# EAGLE library part ICE40LP1K-CM36A (library ICE40LP1K-CM36A)
iCE40 LP/HX/LM - Low-power, high-performance FPGA Source: Datasheet <http://www.latticesemi.com/iCE40>
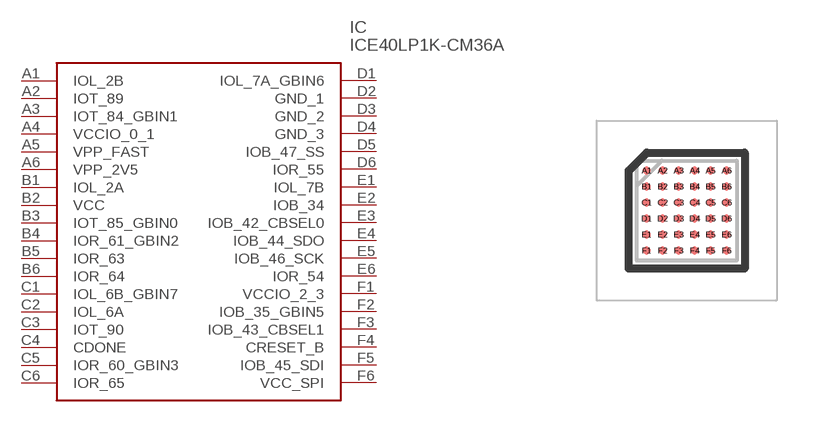
[diagram p0: symbol with the pads of BGA36C40P6X6_250X250X100; footprint BGA36C40P6X6_250X250X100]

Designator prefix IC

## ICE40LP1K-CM36A (Description: iCE40 LP/HX/LM - Low-power, high-performance FPGA; Height: 1mm; Manufacturer_Name: Lattice Semiconductor; Manufacturer_Part_Number: ICE40LP1K-CM36A; Mouser_Part_Number: 842-ICE40LP1K-CM36A; Mouser_Price-Stock: https://www.mouser.co.uk/ProductDetail/Lattice/ICE40LP1K-CM36A?qs=w%2Fv1CP2dgqpOjceq4EogWg%3D%3D)  [BGA36C40P6X6_250X250X100]
A1  IOL_2B
A2  IOT_89
A3  IOT_84_GBIN1
A4  VCCIO_0_1
A5  VPP_FAST
A6  VPP_2V5
B1  IOL_2A
B2  VCC
B3  IOT_85_GBIN0
B4  IOR_61_GBIN2
B5  IOR_63
B6  IOR_64
C1  IOL_6B_GBIN7
C2  IOL_6A
C3  IOT_90
C4  CDONE
C5  IOR_60_GBIN3
C6  IOR_65
D1  IOL_7A_GBIN6
D2  GND_1
D3  GND_2
D4  GND_3
D5  IOB_47_SS
D6  IOR_55
E1  IOL_7B
E2  IOB_34
E3  IOB_42_CBSEL0
E4  IOB_44_SDO
E5  IOB_46_SCK
E6  IOR_54
F1  VCCIO_2_3
F2  IOB_35_GBIN5
F3  IOB_43_CBSEL1
F4  CRESET_B
F5  IOB_45_SDI
F6  VCC_SPI

## Footprint BGA36C40P6X6_250X250X100 (pad centres in mm)
36-BALL UCBGA
smd 0.2 x 0.2: A1 -1,1; A2 -0.6,1; A3 -0.2,1; A4 0.2,1; A5 0.6,1; A6 1,1; B1 -1,0.6; B2 -0.6,0.6; B3 -0.2,0.6; B4 0.2,0.6; B5 0.6,0.6; B6 1,0.6; C1 -1,0.2; C2 -0.6,0.2; C3 -0.2,0.2; C4 0.2,0.2; C5 0.6,0.2; C6 1,0.2; D1 -1,-0.2; D2 -0.6,-0.2; D3 -0.2,-0.2; D4 0.2,-0.2; D5 0.6,-0.2; D6 1,-0.2; E1 -1,-0.6; E2 -0.6,-0.6; E3 -0.2,-0.6; E4 0.2,-0.6; E5 0.6,-0.6; E6 1,-0.6; F1 -1,-1; F2 -0.6,-1; F3 -0.2,-1; F4 0.2,-1; F5 0.6,-1; F6 1,-1